# Altium integrated library SemiCond.IntLib: 55 symbols
Pins are listed as number, name and electrical type; pins without a type are passive.

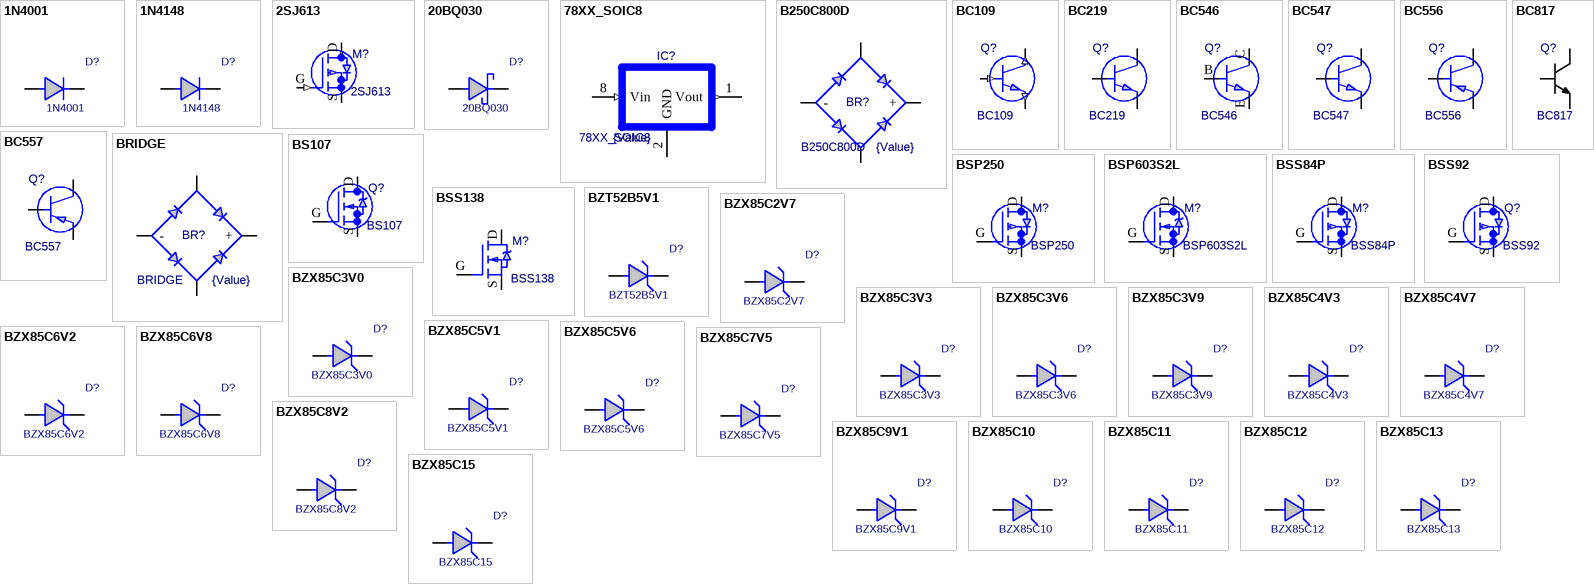
[diagram p0: symbols 1N4001 to BZX85C15]

## 1N4001
designator D?
Value: *
footprint DO 41 (400MILS) larger pads
pins: A, K

## 1N4148
designator D?
Value: *
footprint MELF3517N_DIO (MELF Diode, 2-Leads, Body 3,5x1,7mm, IPC Medium Density); pin to pad A>2 K>1
footprint DO 35 (300MILS)
pins: A, K

## 2SJ613
designator M?
Value: {Value}
footprint _SOT89_2SJ613(Primary)
pins: D (out), D2 (out) hidden, G (in), S (power)

## 20BQ030
designator D?
Value: *
footprint DO-214AA (SMB) (Molded Diode, 2-Leads, Body 4,4x3,6mm, IPC Medium Density); pin to pad A>2 K>1
pins: A, K

## 78XX_SOIC8
designator IC?  value {Value}
footprint SO8R
pins: 1 Vout (out), 2 GND (power), 3 GND (power), 4 hidden, 5 hidden, 6 GND (power), 7 GND (power), 8 Vin (in)

## B250C800D
designator BR?  value {Value}
footprint DIP4M-GREZ
pins: AC1, AC2, GND -, PLUS +

## BC109
designator Q?
Value: {Value}
footprint _TO18_BC109(Primary)
pins: B (in), C (out), E (out)

## BC219
designator Q?
Value: {Value}
footprint TO5_BIG
pins: B, C, E

## BC546
designator Q?
Value: {Value}
footprint TO-92; pin to pad B>2 C>1 E>3
pins: B, C, E

## BC547
designator Q?
Value: {Value}
footprint TO-92; pin to pad 1>3 3>1
pins: 1, 2, 3

## BC556
designator Q?
Value: {Value}
footprint TO-92; pin to pad B>2 C>1 E>3
pins: B, C, E

## BC557
designator Q?
Value: {Value}
footprint TO-92; pin to pad B>2 C>1 E>3
pins: B, C, E

## BC817
designator Q?
Value: {Value}
footprint SOT23; pin to pad B>1 C>3 E>2
pins: B, C, E

## BRIDGE
designator BR?  value {Value}
footprint BRIDGE
pins: 1, 2 +, 3, 4 -

## BS107
designator Q?
Value: {Value}
footprint TO-92; pin to pad D>1 G>2 S>3
pins: D, G, S

## BSP250
designator M?
Value: {Value}
footprint _SOT223_BSP250(Primary)
pins: D, DD hidden, G, S

## BSP603S2L
designator M?
Value: {Value}
footprint _SOT223_BSP603S2L(Primary)
pins: D, DD hidden, G, S

## BSS84P
designator M?
Value: {Value}
footprint SOT23; pin to pad D>3 G>1 S>2
pins: D, G, S

## BSS92
designator Q?
Value: {Value}
footprint TO-92; pin to pad D>3 G>2 S>1
pins: D, G, S

## BSS138
designator M?
Value: {Value}
footprint SOT23-BSS138; pin to pad D>3 G>1 S>2
pins: D, G, S

## BZT52B5V1
designator D?
Farnell order number: 1617767; Value: *
footprint SOD-123
pins: 1, 2

## BZX85C2V7
designator D?
Value: *
footprint DO 35 (300MILS)
pins: A, K

## BZX85C3V0
designator D?
Value: *
footprint DO 35 (300MILS)
pins: A, K

## BZX85C3V3
designator D?
Value: *
footprint DO 35 (300MILS)
pins: A, K

## BZX85C3V6
designator D?
Value: *
footprint DO 35 (300MILS)
pins: A, K

## BZX85C3V9
designator D?
Value: *
footprint DO 35 (300MILS)
pins: A, K

## BZX85C4V3
designator D?
Value: *
footprint DO 35 (300MILS)
pins: A, K

## BZX85C4V7
designator D?
Value: *
footprint DO 35 (300MILS)
pins: A, K

## BZX85C5V1
designator D?
Value: *
footprint DO 35 (300MILS)
pins: A, K

## BZX85C5V6
designator D?
Value: *
footprint DO 35 (300MILS)
pins: A, K

## BZX85C6V2
designator D?
Value: *
footprint DO 35 (300MILS)
pins: A, K

## BZX85C6V8
designator D?
Value: *
footprint DO 35 (300MILS)
pins: A, K

## BZX85C7V5
designator D?
Value: *
footprint DO 35 (300MILS)
pins: A, K

## BZX85C8V2
designator D?
Value: *
footprint DO 35 (300MILS)
pins: A, K

## BZX85C9V1
designator D?
Value: *
footprint DO 35 (300MILS)
pins: A, K

## BZX85C10
designator D?
Value: *
footprint DO 35 (300MILS)
pins: A, K

## BZX85C11
designator D?
Value: *
footprint DO 35 (300MILS)
pins: A, K

## BZX85C12
designator D?
Value: *
footprint DO 35 (300MILS)
pins: A, K

## BZX85C13
designator D?
Value: *
footprint DO 35 (300MILS)
pins: A, K

## BZX85C15
designator D?
Value: *
footprint DO 35 (300MILS)
pins: A, K

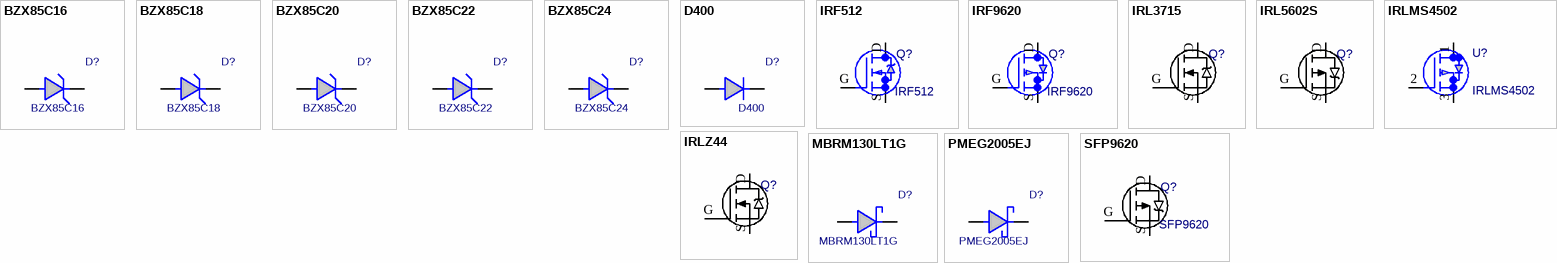
[diagram p1: symbols BZX85C16 to SFP9620]

## BZX85C16
designator D?
Value: *
footprint DO 35 (300MILS)
pins: A, K

## BZX85C18
designator D?
Value: *
footprint DO 35 (300MILS)
pins: A, K

## BZX85C20
designator D?
Value: *
footprint DO 35 (300MILS)
pins: A, K

## BZX85C22
designator D?
Value: *
footprint DO 35 (300MILS)
pins: A, K

## BZX85C24
designator D?
Value: *
footprint DO 35 (300MILS)
pins: A, K

## D400
designator D?
Value: *
footprint D400
pins: 1, 2

## IRF512
designator Q?
Value: {Value}
footprint TO-220AB vertical
footprint TO-220AB horizontal
footprint TO-220AB vertical + HS
footprint TO-220AB vertical + HS2
pins: D, G, S

## IRF9620
designator Q?
Value: {Value}
footprint TO-220AB vertical
footprint TO-220AB horizontal
footprint TO-220AB vertical + HS
footprint TO-220AB vertical + HS2
pins: D, G, S

## IRL3715
designator Q?
HEX-FET Vdss=20V, Id=50A, Rdson=0.011R; Value: {Value}
footprint D2-PAK (D2-PAK, 3-Pads, Body 10,2x10,5mm (max), IPC Medium Density); pin to pad D>2 G>1 S>3
pins: D, G, S

## IRL5602S
designator Q?
HEX-FET Vdss=-20V, Id=-24A, Rdson=0.024R; Value: {Value}
footprint D2-PAK (D2-PAK, 3-Pads, Body 10,2x10,5mm (max), IPC Medium Density); pin to pad D>2 G>1 S>3
pins: D, G, S

## IRLMS4502
designator U?
Value: {Value}
footprint _MICRO6_IRLMS4502(Primary)
pins: 1 D, 2 G, 3 S, 4 hidden, 5 hidden, 6 hidden

## IRLZ44
designator Q?
HEX-FET Vdss=60V, Id=35A, Rdson=0.04R; Value: {Value}
footprint D2-PAK (D2-PAK, 3-Pads, Body 10,2x10,5mm (max), IPC Medium Density); pin to pad D>2 G>1 S>3
pins: D, G, S

## MBRM130LT1G
designator D?
Value: *
footprint POWERMITE
pins: 1, 2

## PMEG2005EJ
designator D?
Value: *
footprint SOD-323F
pins: 1, 2

## SFP9620
designator Q?
Value: {Value}
footprint TO-220AB horizontal
footprint TO-220AB vertical
footprint TO-220AB vertical + HS
footprint TO-220AB vertical + HS2
pins: D, G, S